# Altium footprint library RES-1K-0805.PcbLib: 1 footprints
Each footprint in its own frame and in the unit in brackets; x right, y up, seen from the top. Pads: shape width x height; smd on the part's side, far side on the other; paste and mask are expansions set on the pad; w line width, h text height; cw(c..) or ccw(c..) is an arc to the next point about the centre after c.
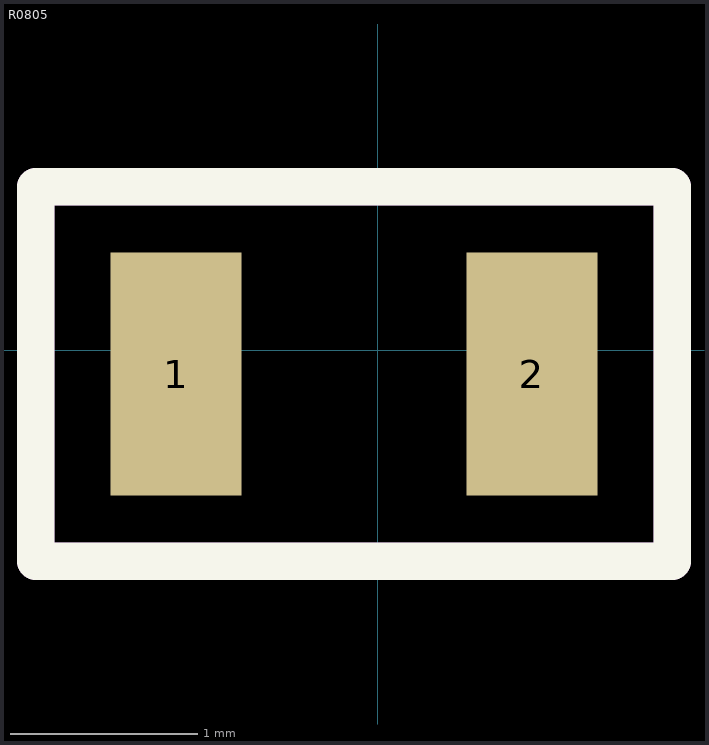
[diagram p0: the footprint, top view; thin cyan lines are the x and y axes]

## R0805 [mm]
pads (2):
  rect 0.7x1.3 smd: 1(-1.077,-0.127) 2(0.823,-0.127)
Top Overlay:
  lines w0.2: -1.827,-1.127 1.573,-1.127 1.573,0.873 -1.827,0.873 -1.827,-1.127
Mechanical 29:
  lines w0.2: -1.827,-1.127 -1.827,0.873 1.573,0.873 1.573,-1.127 -1.827,-1.127
  text ".Designator" at -0.627,-0.327 h0.6
3D body "RESC2012X70N EIA 0805.step": height 0.71, standoff 0.01, extent -1.127,-0.727 0.873,0.473